# Altium schematic symbol library SCH - MCU - STM32 - ST MICROELECTRONICS STM32L081KZUX UFQFPN32.SchLib: 1 symbol
Pins are listed as number, name and electrical type; pins without a type are passive.

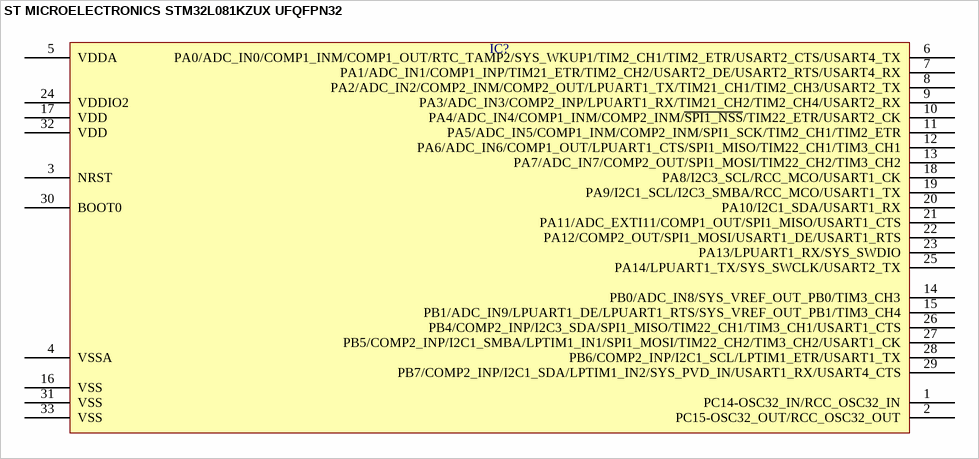
[diagram p0: symbol ST MICROELECTRONICS STM32L081KZUX UFQFPN32]

## ST MICROELECTRONICS STM32L081KZUX UFQFPN32
designator IC?  (value not drawn)
pins: 1 PC14-OSC32_IN/RCC_OSC32_IN, 2 PC15-OSC32_OUT/RCC_OSC32_OUT, 3 NRST, 4 VSSA, 5 VDDA, 6 PA0/ADC_IN0/COMP1_INM/COMP1_OUT/RTC_TAMP2/SYS_WKUP1/TIM2_CH1/TIM2_ETR/USART2_CTS/USART4_TX, 7 PA1/ADC_IN1/COMP1_INP/TIM21_ETR/TIM2_CH2/USART2_DE/USART2_RTS/USART4_RX, 8 PA2/ADC_IN2/COMP2_INM/COMP2_OUT/LPUART1_TX/TIM21_CH1/TIM2_CH3/USART2_TX, 9 PA3/ADC_IN3/COMP2_INP/LPUART1_RX/TIM21_CH2/TIM2_CH4/USART2_RX, 10 PA4/ADC_IN4/COMP1_INM/COMP2_INM/~{SPI1_NSS}/TIM22_ETR/USART2_CK, 11 PA5/ADC_IN5/COMP1_INM/COMP2_INM/SPI1_SCK/TIM2_CH1/TIM2_ETR, 12 PA6/ADC_IN6/COMP1_OUT/LPUART1_CTS/SPI1_MISO/TIM22_CH1/TIM3_CH1, 13 PA7/ADC_IN7/COMP2_OUT/SPI1_MOSI/TIM22_CH2/TIM3_CH2, 14 PB0/ADC_IN8/SYS_VREF_OUT_PB0/TIM3_CH3, 15 PB1/ADC_IN9/LPUART1_DE/LPUART1_RTS/SYS_VREF_OUT_PB1/TIM3_CH4, 16 VSS, 17 VDD, 18 PA8/I2C3_SCL/RCC_MCO/USART1_CK, 19 PA9/I2C1_SCL/I2C3_SMBA/RCC_MCO/USART1_TX, 20 PA10/I2C1_SDA/USART1_RX, 21 PA11/ADC_EXTI11/COMP1_OUT/SPI1_MISO/USART1_CTS, 22 PA12/COMP2_OUT/SPI1_MOSI/USART1_DE/USART1_RTS, 23 PA13/LPUART1_RX/SYS_SWDIO, 24 VDDIO2, 25 PA14/LPUART1_TX/SYS_SWCLK/USART2_TX, 26 PB4/COMP2_INP/I2C3_SDA/SPI1_MISO/TIM22_CH1/TIM3_CH1/USART1_CTS, 27 PB5/COMP2_INP/I2C1_SMBA/LPTIM1_IN1/SPI1_MOSI/TIM22_CH2/TIM3_CH2/USART1_CK, 28 PB6/COMP2_INP/I2C1_SCL/LPTIM1_ETR/USART1_TX, 29 PB7/COMP2_INP/I2C1_SDA/LPTIM1_IN2/SYS_PVD_IN/USART1_RX/USART4_CTS, 30 BOOT0, 31 VSS, 32 VDD, 33 VSS